# EAGLE library part 143135183110 (library WL-OCHS)
WL-OCHS DIP-8 Characteristics Very high transmission speed - MHz to Mbit/s range Precise shifting without much delay thanks to fast switching times High insulation voltage VISO = 3750 & 5000 VRMS High immunity to interference (EMC) Applications High-speed digital signal transmission Interface isolation (e.g., UART, SPI, RS-232, RS-485) Switching power supplies and power electronics Industrial controls and automation Microcontroller and embedded systems Details see: www.we-online.com/en/components/products/WL-OCHS-DIP-8 Created by Ella 2026-08-06 2026(C) Würth Elektronik
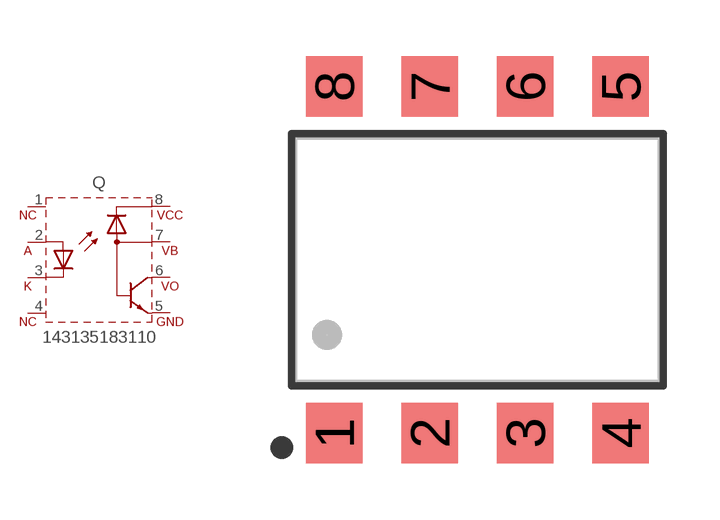
[diagram p11: symbol with the pads of WL-OCHS_DIP8_SL-TYPE; footprint WL-OCHS_DIP8_SL-TYPE]

Designator prefix Q

## 143135183110 (CATEGORY: Optocoupler; CMTILH: 1 kV/µsmA; DATASHEET: https://www.we-online.com/redexpert/spec/143135183110?ae; HEIGHT: 3.5mm; LENGTH: 8.57mm; MANUFACTURER: Würth Elektronik; MOUNT: SMT; MPN: 143135183110; OPERATING-TEMPERATURE: -40 °C up to +110 °C; PACKAGE-TYPE: DIP 8, SL-Type; TPLH: 1300 nsV; VALUE: 143135183110; VISO: 5000 V (RMS); WIDTH: 9.68mm)  [WL-OCHS_DIP8_SL-TYPE]
1  1  pas
2  2  pas
3  3  pas
4  4  pas
5  5  pas
6  6  pas
7  7  pas
8  8  pas

## Footprint WL-OCHS_DIP8_SL-TYPE (pad centres in mm)
WL-OCHS Optocoupler High Speed Size: DIP-8 SL-Type, SMT, 8pins LXWXH=8.57X9.68X4.46mm
smd 1.5 x 1.6: 1 -3.81,-4.61; 2 -1.27,-4.61; 3 1.27,-4.61; 4 3.81,-4.61; 5 3.81,4.61; 6 1.27,4.61; 7 -1.27,4.61; 8 -3.81,4.61